# Altium schematic symbol library MM8030-2610RJ3.SchLib: 1 symbol
Pins are listed as number, name and electrical type; pins without a type are passive.

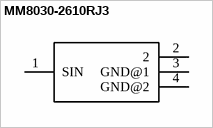
[diagram p0: symbol MM8030-2610RJ3]

## MM8030-2610RJ3
designator J?  (value not drawn)
CONN UMC RECEPT SMD; Manufacturer: Murata Electronics North America; Manufacturer Part Number: MM8030-2610RK0; Other Names: 490-11804-6; Digi-Key Part Number: 490-11804-6-ND
footprint MURATA_MM8030-2610RJ3
pins: 1 SIN, 2, 3 GND@1 (power), 4 GND@2 (power)